# Altium footprint library Littlefuse - ResettablePTCs.PcbLib: 2 footprints
Each footprint in its own frame and in the unit in brackets; x right, y up, seen from the top. Pads: shape width x height; smd on the part's side, far side on the other; paste and mask are expansions set on the pad; w line width, h text height; cw(c..) or ccw(c..) is an arc to the next point about the centre after c.
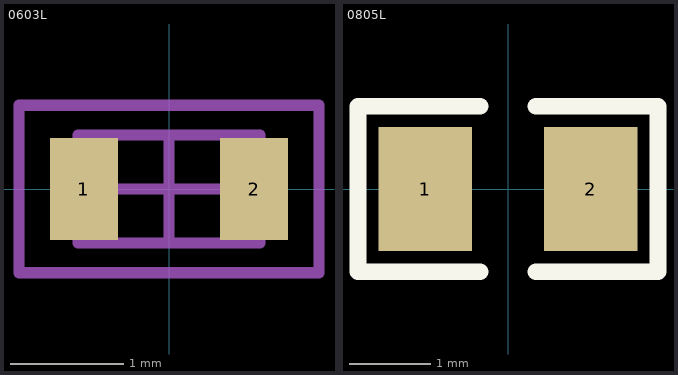
[diagram p0: the footprints below, top view; thin cyan lines are the x and y axes]

## 0603L [mm] "General SMD 0603 footprint"
height 0.5
pads (2):
  rect 0.6x0.9 smd paste-0.051 mask+0: 1(-0.75,0) 2(0.75,0)
Mechanical 13:
  lines w0.1: -0.8,-0.475 -0.8,0.475 0.8,0.475 0.8,-0.475 -0.8,-0.475
Mechanical 15:
  lines w0.1: -0.475,0 0.475,0 ; 0,-0.475 0,0.475 ; -1.321,-0.737 1.321,-0.737 1.321,0.737 -1.321,0.737 -1.321,-0.737
3D body "User Library-ptc06032-1.STEP": height 0.75, standoff 0, extent -0.788,-0.375 0.812,0.375

## 0805L [mil]
pads (2):
  rect 45x60 smd: 1(-40,0) 2(40,0)
Top Overlay:
  lines w8: -13.5,-40 -72.5,-40 -72.5,40 -13.5,40 ; 13.5,-40 72.5,-40 72.5,40 13.5,40
3D body: height 25, standoff 0, extent 26,-25 40.5,25
3D body: height 25, standoff 0, extent -40.5,-25 -26,25
3D body "User Library-fuse0805L050WR.STEP": height 49, standoff 0, extent -43.49,-29.49 43.51,29.51